# Altium schematic symbol library AltiumLibraries.SchLib: 486 symbols (part 1 of 3)
Pins are listed as number, name and electrical type; pins without a type are passive.

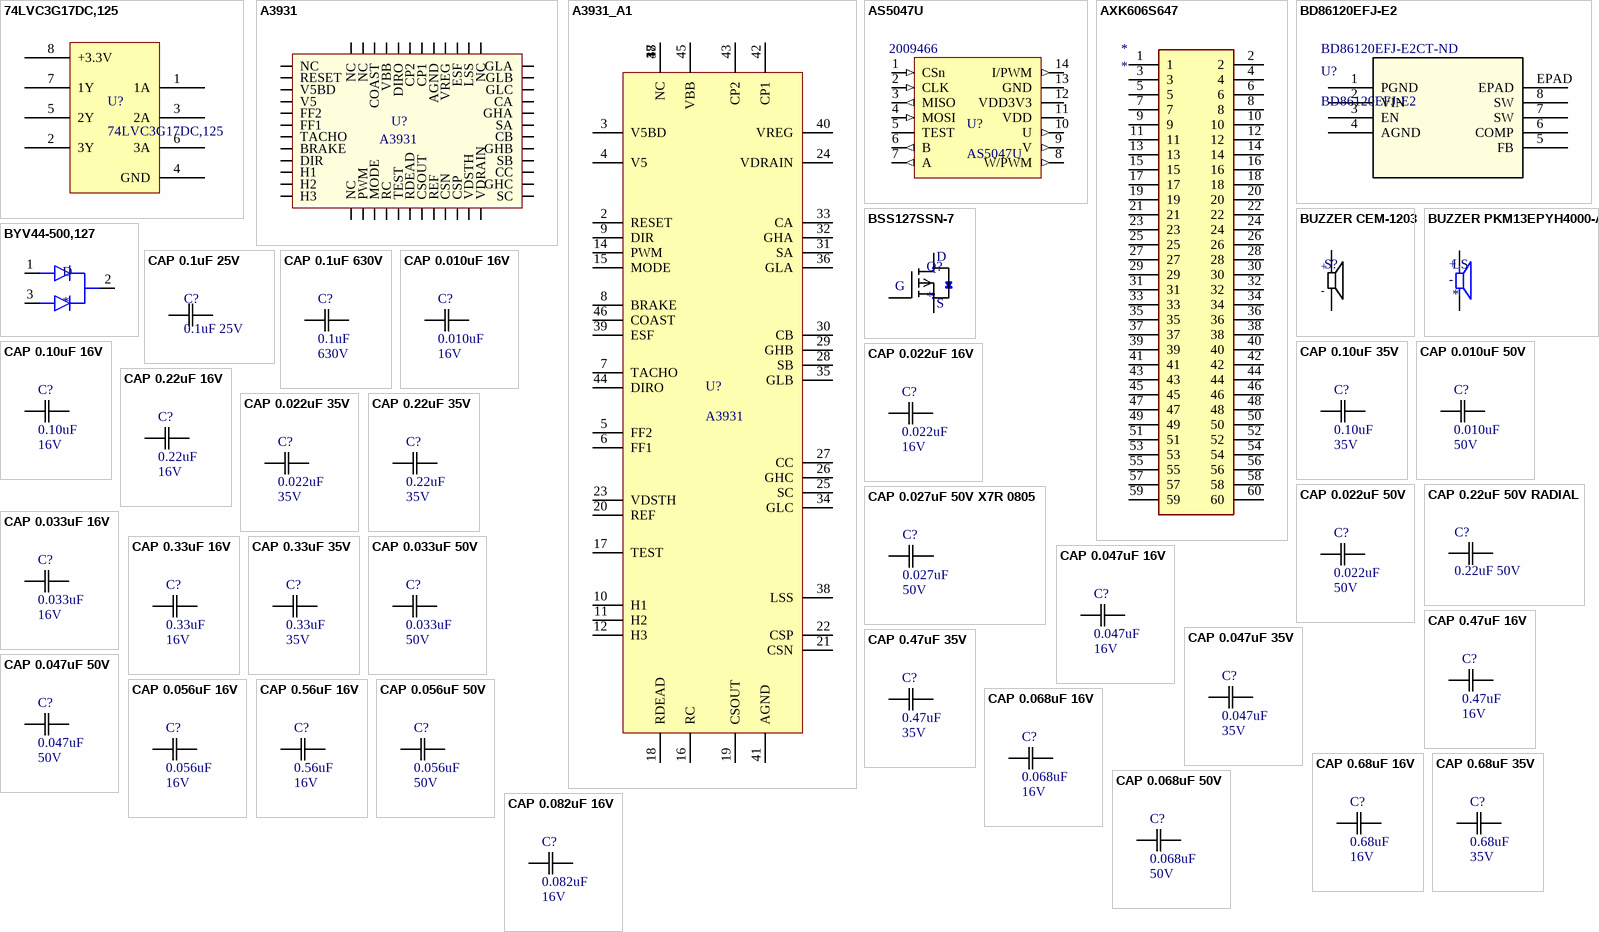
[diagram p0: symbols 74LVC3G17DC,125 to CAP 0.082uF 16V]

## 74LVC3G17DC,125
designator U?
IC BUFFER TRIPLE SCHMITT TRIGGER 5.5V VSSOP-8; Manufacturer: Nexperia; Supplier 1: Newark; Manufacturer Part Number: 74LVC3G17DC,125; Supplier Part Number 1: 33AC1281
pins: 1 1A, 2 3Y, 3 2A, 4 GND (power), 5 2Y, 6 3A, 7 1Y, 8 +3.3V

## A3931
designator U?
IC MOTOR DRIVER 5.5V-50V 48LQFP; Rating: 5.5V ~ 50V; Digikey Link: https://www.digikey.com/product-detail/en/allegro-microsystems-llc/A3931KJPTR-T/620-1290-1-ND/2000021; Supplier 1: Digi-Key; Supplier Part Number 1: 620-1290-1-ND
pins: 1 NC, 2 RESET, 3 V5BD, 4 V5, 5 FF2, 6 FF1, 7 TACHO, 8 BRAKE, 9 DIR, 10 H1, 11 H2, 12 H3, 13 NC, 14 PWM, 15 MODE, 16 RC, 17 TEST, 18 RDEAD, 19 CSOUT, 20 REF, 21 CSN, 22 CSP, 23 VDSTH, 24 VDRAIN, 25 SC, 26 GHC, 27 CC, 28 SB, 29 GHB, 30 CB, 31 SA, 32 GHA, 33 CA, 34 GLC, 35 GLB, 36 GLA, 37 NC, 38 LSS, 39 ESF, 40 VREG, 41 AGND, 42 CP1, 43 CP2, 44 DIRO, 45 VBB, 46 COAST, 47 NC, 48 NC

## A3931_A1
designator U?, comment A3931
IC MOTOR DRIVER 5.5V-50V 48LQFP - Alternative Symbol; Digikey Link: https://www.digikey.ca/product-detail/en/allegro-microsystems/A3931KJPTR-T/620-1290-1-ND/2000021; Supplier 1: Digi-Key; Supplier Part Number 1: 620-1290-1-ND
pins: 1 NC, 2 RESET, 3 V5BD, 4 V5, 5 FF2, 6 FF1, 7 TACHO, 8 BRAKE, 9 DIR, 10 H1, 11 H2, 12 H3, 13, 14 PWM, 15 MODE, 16 RC, 17 TEST, 18 RDEAD, 19 CSOUT, 20 REF, 21 CSN, 22 CSP, 23 VDSTH, 24 VDRAIN, 25 SC, 26 GHC, 27 CC, 28 SB, 29 GHB, 30 CB, 31 SA, 32 GHA, 33 CA, 34 GLC, 35 GLB, 36 GLA, 37 NC, 38 LSS, 39 ESF, 40 VREG, 41 AGND, 42 CP1, 43 CP2, 44 DIRO, 45 VBB, 46 COAST, 47 NC, 48 NC

## AS5047U
designator U?  Supplier Part Number 1: 2009466
14-Bit On-Axis Magnetic Rotary Position Sensor with Up to 14-Bit Binary Incremental Pulse Count; Supplier 1: RSComponents
pins: 1 CSn (in), 2 CLK (in), 3 MISO (out), 4 MOSI (in), 5 TEST, 6 B (out), 7 A (out), 8 W/PWM (out), 9 V (out), 10 U (out), 11 VDD, 12 VDD3V3, 13 GND, 14 I/PWM (out)

## AXK606S647
designator *
RS14100_WIFI_CONN
pins: 1, 2, 3, 4, 5, 6, 7, 8, 9, 10, 11, 12, 13, 14, 15, 16, 17, 18, 19, 20, 21, 22, 23, 24, 25, 26, 27, 28, 29, 30, 31, 32, 33, 34, 35, 36, 37, 38, 39, 40, 41, 42, 43, 44, 45, 46, 47, 48, 49, 50, 51, 52, 53, 54, 55, 56, 57, 58, 59, 60

## BD86120EFJ-E2
designator U?  Supplier Part Number 1: BD86120EFJ-E2CT-ND
IC REG BUCK ADJ 5A 8HTSOP-J; Type: DEV; Supplier 1: Digi-Key
pins: 1 PGND, 2 VIN, 3 EN, 4 AGND, 5 FB, 6 COMP, 7 SW, 8 SW, EPAD

## BSS127SSN-7
designator Q?
Small Signal N-Ch, 600Vds
pins: D, G, S

## BUZZER CEM-1203
designator S?  (value not drawn)
AUDIO MAGNETIC XDCR 3-5V TH; Supplier 1: Digi-Key; Supplier Part Number 1: 102-1153-ND
pins: N, P
text: +; -

## BUZZER PKM13EPYH4000-A0
designator LS
Buzzers Transducer, Externally Driven Piezo 1.5V 4kHz 70dB @ 1.5V, 10cm Through Hole PC Pins; Value: *
pins: N, P
text: +; -

## BYV44-500,127
designator D
DIODE ARRAY GP 500V 30A TO220AB; Supplier 1: Digi-Key; Supplier Part Number 1: BYV44-500,127-ND
pins: 1 ANODE1, 2 COMMON_CATHODE, 3 ANODE2

## CAP 0.1uF 25V
designator C?, comment 0.1uF 25V
CAP CER 0.1UF 25V X7R 0805; Tolerance: 10%; Value: 0.1uF; Temperature Coefficient: X7R; Rating: 25V
pins: 1 C1, 2 C2

## CAP 0.1uF 630V
designator C?, comment Rating: 630V  (hidden comment: 0.1uF)
CAP CER 0.1uF 630V X7R 1210; Tolerance: 10%; Temperature Coefficient: X7R; Value: 0.1uF
pins: 1 C1, 2 C2

## CAP 0.010uF 16V
designator C?, comment Rating: 16V  (hidden comment: 0.010uF)
CAP CER 0.010UF 16V X5R 0603/0805; Tolerance: 10%; Temperature Coefficient: X5R; Value: 0.010uF
pins: 1 C1, 2 C2

## CAP 0.10uF 16V
designator C?, comment Rating: 16V  (hidden comment: 0.10uF)
CAP CER 0.10UF 16V X5R 0603/0805; Tolerance: 10%; Temperature Coefficient: X5R; Value: 0.10uF
pins: 1 C1, 2 C2

## CAP 0.10uF 35V
designator C?, comment Rating: 35V  (hidden comment: 0.10uF)
CAP CER 0.10UF 35V X7R 0603/0805; Tolerance: 10%; Temperature Coefficient: X7R; Value: 0.10uF
pins: 1 C1, 2 C2

## CAP 0.010uF 50V
designator C?, comment Rating: 50V  (hidden comment: 0.010uF)
CAP CER 0.010UF 50V X7R 0603/0805; Tolerance: 10%; Temperature Coefficient: X7R; Value: 0.010uF
pins: 1 C1, 2 C2

## CAP 0.022uF 16V
designator C?, comment Rating: 16V  (hidden comment: 0.022uF)
CAP CER 0.022UF 16V X5R 0603/0805; Tolerance: 10%; Temperature Coefficient: X5R; Value: 0.022uF
pins: 1 C1, 2 C2

## CAP 0.22uF 16V
designator C?, comment Rating: 16V  (hidden comment: 0.22uF)
CAP CER 0.22UF 16V X5R 0603/0805; Tolerance: 10%; Temperature Coefficient: X5R; Value: 0.22uF
pins: 1 C1, 2 C2

## CAP 0.022uF 35V
designator C?, comment Rating: 35V  (hidden comment: 0.022uF)
CAP CER 0.022UF 35V X7R 0603/0805; Tolerance: 10%; Temperature Coefficient: X7R; Value: 0.022uF
pins: 1 C1, 2 C2

## CAP 0.22uF 35V
designator C?, comment Rating: 35V  (hidden comment: 0.22uF)
CAP CER 0.22UF 35V X7R 0603/0805; Tolerance: 10%; Temperature Coefficient: X7R; Value: 0.22uF
pins: 1 C1, 2 C2

## CAP 0.022uF 50V
designator C?, comment Rating: 50V  (hidden comment: 0.022uF)
CAP CER 0.022UF 50V X7R 0603/0805; Tolerance: 10%; Temperature Coefficient: X7R; Value: 0.022uF
pins: 1 C1, 2 C2

## CAP 0.22uF 50V RADIAL
designator C?, comment 0.22uF 50V
CAP CER 0.22UF 50V X7R RADIAL; Tolerance: 10%; Value: 0.22 uF; Rating: 50V; Temperature coefficient: X7R
pins: 1 C1, 2 C2

## CAP 0.027uF 50V X7R 0805
designator C?, comment 0.027uF  Rating: 50V
CAP CER 0.027UF 50V X7R 0805; Tolerance: 5%; Temperature Coefficient: X7R; Value: 0.027uF
pins: 1, 2

## CAP 0.033uF 16V
designator C?, comment Rating: 16V  (hidden comment: 0.033uF)
CAP CER 0.033UF 16V X5R 0603/0805; Tolerance: 10%; Temperature Coefficient: X5R; Value: 0.033uF
pins: 1 C1, 2 C2

## CAP 0.33uF 16V
designator C?, comment Rating: 16V  (hidden comment: 0.33uF)
CAP CER 0.33UF 16V X5R 0603/0805; Tolerance: 10%; Temperature Coefficient: X5R; Value: 0.33uF
pins: 1 C1, 2 C2

## CAP 0.33uF 35V
designator C?, comment Rating: 35V  (hidden comment: 0.33uF)
CAP CER 0.33UF 35V X7R 0603/0805; Tolerance: 10%; Temperature Coefficient: X7R; Value: 0.33uF
pins: 1 C1, 2 C2

## CAP 0.033uF 50V
designator C?, comment Rating: 50V  (hidden comment: 0.033uF)
CAP CER 0.033UF 50V X7R 0603/0805; Tolerance: 10%; Temperature Coefficient: X7R; Value: 0.033uF
pins: 1 C1, 2 C2

## CAP 0.047uF 16V
designator C?, comment Rating: 16V  (hidden comment: 0.047uF)
CAP CER 0.047UF 16V X5R 0603/0805; Tolerance: 10%; Temperature Coefficient: X5R; Value: 0.047uF
pins: 1 C1, 2 C2

## CAP 0.47uF 16V
designator C?, comment Rating: 16V  (hidden comment: 0.47uF)
CAP CER 0.47UF 16V X5R 0603/0805; Tolerance: 10%; Temperature Coefficient: X5R; Value: 0.47uF
pins: 1 C1, 2 C2

## CAP 0.047uF 35V
designator C?, comment Rating: 35V  (hidden comment: 0.047uF)
CAP CER 0.047UF 35V X7R 0603/0805; Tolerance: 10%; Temperature Coefficient: X7R; Value: 0.047uF
pins: 1 C1, 2 C2

## CAP 0.47uF 35V
designator C?, comment Rating: 35V  (hidden comment: 0.47uF)
CAP CER 0.47UF 35V X7R 0603/0805; Tolerance: 10%; Temperature Coefficient: X7R; Value: 0.47uF
pins: 1 C1, 2 C2

## CAP 0.047uF 50V
designator C?, comment Rating: 50V  (hidden comment: 0.047uF)
CAP CER 0.047UF 50V X7R 0603/0805; Tolerance: 10%; Temperature Coefficient: X7R; Value: 0.047uF
pins: 1 C1, 2 C2

## CAP 0.056uF 16V
designator C?, comment Rating: 16V  (hidden comment: 0.056uF)
CAP CER 0.056UF 16V X5R 0603; Tolerance: 10%; Temperature Coefficient: X5R; Value: 0.056uF
pins: 1 C1, 2 C2

## CAP 0.56uF 16V
designator C?, comment Rating: 16V  (hidden comment: 0.56uF)
CAP CER 0.56UF 16V X5R 0805; Tolerance: 10%; Temperature Coefficient: X5R; Value: 0.56uF
pins: 1 C1, 2 C2

## CAP 0.056uF 50V
designator C?, comment Rating: 50V  (hidden comment: 0.056uF)
CAP CER 0.056UF 50V X7R 0603/0805; Tolerance: 10%; Temperature Coefficient: X7R; Value: 0.056uF
pins: 1 C1, 2 C2

## CAP 0.068uF 16V
designator C?, comment Rating: 16V  (hidden comment: 0.068uF)
CAP CER 0.068UF 16V X5R 0603/0805; Tolerance: 10%; Temperature Coefficient: X5R; Value: 0.068uF
pins: 1 C1, 2 C2

## CAP 0.68uF 16V
designator C?, comment Rating: 16V  (hidden comment: 0.68uF)
CAP CER 0.68UF 16V X5R 0603/0805; Tolerance: 10%; Temperature Coefficient: X5R; Value: 0.68uF
pins: 1 C1, 2 C2

## CAP 0.68uF 35V
designator C?, comment Rating: 35V  (hidden comment: 0.68uF)
CAP CER 0.68UF 35V X7R 0603/0805; Tolerance: 10%; Temperature Coefficient: X7R; Value: 0.68uF
pins: 1 C1, 2 C2

## CAP 0.068uF 50V
designator C?, comment Rating: 50V  (hidden comment: 0.068uF)
CAP CER 0.068UF 50V X7R 0603/0805; Tolerance: 10%; Temperature Coefficient: X7R; Value: 0.068uF
pins: 1 C1, 2 C2

## CAP 0.082uF 16V
designator C?, comment Rating: 16V  (hidden comment: 0.082uF)
CAP CER 0.082UF 16V X5R 0603; Tolerance: 10%; Temperature Coefficient: X5R; Value: 0.082uF
pins: 1 C1, 2 C2

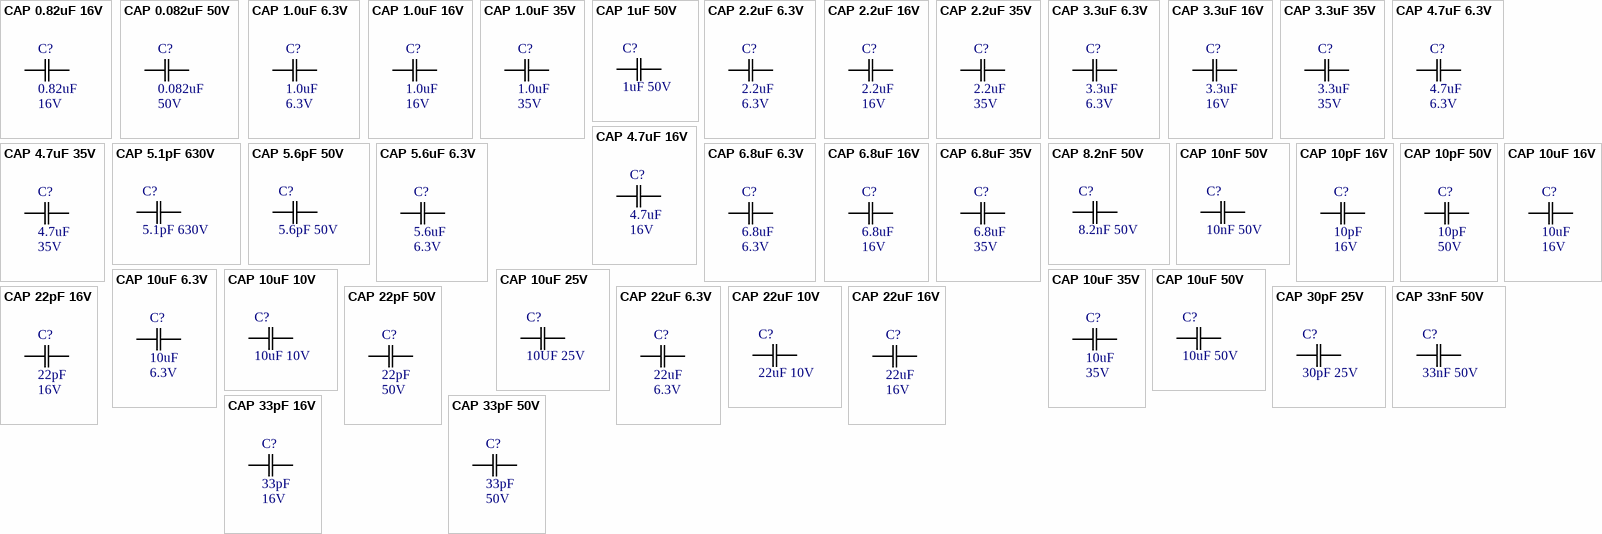
[diagram p1: symbols CAP 0.82uF 16V to CAP 33pF 50V]

## CAP 0.82uF 16V
designator C?, comment Rating: 16V  (hidden comment: 0.82uF)
CAP CER 0.82UF 16V X5R 0805; Tolerance: 10%; Temperature Coefficient: X5R; Value: 0.82uF
pins: 1 C1, 2 C2

## CAP 0.082uF 50V
designator C?, comment Rating: 50V  (hidden comment: 0.082uF)
CAP CER 0.082UF 50V X7R 0603/0805; Tolerance: 10%; Temperature Coefficient: X7R; Value: 0.082uF
pins: 1 C1, 2 C2

## CAP 1.0uF 6.3V
designator C?, comment Rating: 6.3V  (hidden comment: 1.0uF)
CAP CER 1.0UF 6.3V X5R 0603/0805; Tolerance: 10%; Temperature Coefficient: X5R; Value: 1.0uF
pins: 1 C1, 2 C2

## CAP 1.0uF 16V
designator C?, comment Rating: 16V  (hidden comment: 1.0uF)
CAP CER 1.0UF 16V X5R 0603/0805; Tolerance: 10%; Temperature Coefficient: X5R; Value: 1.0uF
pins: 1 C1, 2 C2

## CAP 1.0uF 35V
designator C?, comment Rating: 35V  (hidden comment: 1.0uF)
CAP CER 1.0UF 35V X7R 0603/0805; Tolerance: 10%; Temperature Coefficient: X7R; Value: 1.0uF
pins: 1 C1, 2 C2

## CAP 1uF 50V
designator C?, comment 1uF 50V
CAP CER 1UF 50V X7R 0805; Tolerance: 10%; Value: 1uF; Rating: 50V; Temperature Coefficient: X7R
pins: 1 C1, 2 C2

## CAP 2.2uF 6.3V
designator C?, comment Rating: 6.3V  (hidden comment: 2.2uF)
CAP CER 2.2UF 6.3V X5R 0603/0805; Tolerance: 10%; Temperature Coefficient: X5R; Value: 2.2uF
pins: 1 C1, 2 C2

## CAP 2.2uF 16V
designator C?, comment Rating: 16V  (hidden comment: 2.2uF)
CAP CER 2.2UF 16V X5R 0603/0805; Tolerance: 10%; Temperature Coefficient: X5R; Value: 2.2uF
pins: 1 C1, 2 C2

## CAP 2.2uF 35V
designator C?, comment Rating: 35V  (hidden comment: 2.2uF)
CAP CER 2.2UF 35V X7R 0603/0805; Tolerance: 10%; Temperature Coefficient: X7R; Value: 2.2uF
pins: 1 C1, 2 C2

## CAP 3.3uF 6.3V
designator C?, comment Rating: 6.3V  (hidden comment: 3.3uF)
CAP CER 3.3UF 6.3V X5R 0603/0805; Tolerance: 10%; Temperature Coefficient: X5R; Value: 3.3uF
pins: 1 C1, 2 C2

## CAP 3.3uF 16V
designator C?, comment Rating: 16V  (hidden comment: 3.3uF)
CAP CER 3.3UF 16V X5R 0603/0805; Tolerance: 10%; Temperature Coefficient: X5R; Value: 3.3uF
pins: 1 C1, 2 C2

## CAP 3.3uF 35V
designator C?, comment Rating: 35V  (hidden comment: 3.3uF)
CAP CER 3.3UF 35V X7R 0603/0805; Tolerance: 10%; Temperature Coefficient: X7R; Value: 3.3uF
pins: 1 C1, 2 C2

## CAP 4.7uF 6.3V
designator C?, comment Rating: 6.3V  (hidden comment: 4.7uF)
CAP CER 4.7UF 6.3V X5R 0603/0805; Tolerance: 10%; Temperature Coefficient: X5R; Value: 4.7uF
pins: 1 C1, 2 C2

## CAP 4.7uF 16V
designator C?, comment Rating: 16V  (hidden comment: 4.7uF)
CAP CER 4.7UF 16V X5R 0603/0805; Tolerance: 10%; Temperature Coefficient: X5R; Value: 4.7uF
pins: 1 C1, 2 C2

## CAP 4.7uF 35V
designator C?, comment Rating: 35V  (hidden comment: 4.7uF)
CAP CER 4.7UF 35V X7R 0603/0805; Tolerance: 10%; Temperature Coefficient: X7R; Value: 4.7uF
pins: 1 C1, 2 C2

## CAP 5.1pF 630V
designator C?, comment 5.1pF 630V
CAP CER 5.1PF 630V C0G/NP0 0805; Tolerance: 10%; Rating: 50V; Value: 5.1pF; Temperature Coefficient: C0G/NP0
pins: 1 C1, 2 C2

## CAP 5.6pF 50V
designator C?, comment 5.6pF 50V
CAP CER 5.6PF 50V C0G/NP0 0805; Tolerance: 5%; Value: 5.6pF; Rating: 50V; Temperature Coefficient: C0G/NP0
pins: 1 C1, 2 C2

## CAP 5.6uF 6.3V
designator C?, comment Rating: 6.3V  (hidden comment: 5.6uF)
CAP CER 5.6UF 6.3V X5R 0805; Tolerance: 10%; Temperature Coefficient: X5R; Value: 5.6uF
pins: 1 C1, 2 C2

## CAP 6.8uF 6.3V
designator C?, comment Rating: 6.3V  (hidden comment: 6.8uF)
CAP CER 6.8UF 6.3V X5R 0603/0805; Tolerance: 10%; Temperature Coefficient: X5R; Value: 6.8uF
pins: 1 C1, 2 C2

## CAP 6.8uF 16V
designator C?, comment Rating: 16V  (hidden comment: 6.8uF)
CAP CER 6.8UF 16V X5R 0603/0805; Tolerance: 10%; Temperature Coefficient: X5R; Value: 6.8uF
pins: 1 C1, 2 C2

## CAP 6.8uF 35V
designator C?, comment Rating: 35V  (hidden comment: 6.8uF)
CAP CER 6.8UF 35V X7R 0805; Tolerance: 10%; Temperature Coefficient: X7R; Value: 6.8uF
pins: 1 C1, 2 C2

## CAP 8.2nF 50V
designator C?, comment 8.2nF 50V
CAP CER 8200PF 50V X7R 0805; Tolerance: 10%; Value: 8.2nF; Rating: 50V; Temperature Coefficient: X7R
pins: 1 C1, 2 C2

## CAP 10nF 50V
designator C?, comment 10nF 50V
CAP CER 10000PF 50V X7R 0805; Tolerance: 10%; Value: 10nF; Rating: 50V; Temperature Coefficient: X7R
pins: 1 C1, 2 C2

## CAP 10pF 16V
designator C?, comment Rating: 16V  (hidden comment: 10pF)
CAP CER 10PF 16V X5R 0603; Tolerance: 10%; Temperature Coefficient: X5R; Value: 10pF
pins: 1 C1, 2 C2

## CAP 10pF 50V
designator C?, comment Rating: 50V  (hidden comment: 10pF)
CAP CER 10PF 50V X7R 0603/0805; Tolerance: 10%; Temperature Coefficient: X7R; Value: 10pF
pins: 1 C1, 2 C2

## CAP 10uF 6.3V
designator C?, comment Rating: 6.3V  (hidden comment: 10uF)
CAP CER 10UF 6.3V X5R 0603/0805; Tolerance: 10%; Temperature Coefficient: X5R; Value: 10uF
pins: 1 C1, 2 C2

## CAP 10uF 10V
designator C?, comment 10uF 10V
CAP CER 10UF 10V X5R 0805; Tolerance: 10%; Value: 10uF; Rating: 10V
pins: 1 C1, 2 C2

## CAP 10uF 16V
designator C?, comment Rating: 16V  (hidden comment: 10uF)
CAP CER 10UF 16V X5R 0603/0805; Tolerance: 10%; Temperature Coefficient: X5R; Value: 10uF
pins: 1 C1, 2 C2

## CAP 10uF 25V
designator C?, comment 10UF 25V
CAP CER 10UF 25V X5R 1206; Tolerance: 10%; Value: 10uF; Rating: 25V; Temperature Coefficient: X5R
pins: 1 C1, 2 C2

## CAP 10uF 35V
designator C?, comment Rating: 35V  (hidden comment: 10uF)
CAP CER 10UF 35V X7R 0805; Tolerance: 10%; Temperature Coefficient: X7R; Value: 10uF
pins: 1 C1, 2 C2

## CAP 10uF 50V
designator C?, comment 10uF 50V
CAP CER 10UF 50V X7R; Tolerance: 10%; Value: 10uF; Rating: 50V
pins: 1 C1, 2 C2

## CAP 22pF 16V
designator C?, comment Rating: 16V  (hidden comment: 22pF)
CAP CER 22PF 16V X5R 0603; Tolerance: 10%; Temperature Coefficient: X5R; Value: 22pF
pins: 1 C1, 2 C2

## CAP 22pF 50V
designator C?, comment Rating: 50V  (hidden comment: 22pF)
CAP CER 22PF 50V X7R 0603/0805; Tolerance: 10%; Temperature Coefficient: X7R; Value: 22pF
pins: 1 C1, 2 C2

## CAP 22uF 6.3V
designator C?, comment Rating: 6.3V  (hidden comment: 22uF)
CAP CER 22UF 6.3V X5R 0603/0805; Tolerance: 10%; Temperature Coefficient: X5R; Value: 22uF
pins: 1 C1, 2 C2

## CAP 22uF 10V
designator C?, comment 22uF 10V
CAP CER 2.2UF 10V X5R 0805; Tolerance: 20%; Value: 22uF; Rating: 10V; Temperature Coefficient: X5R
pins: 1 C1, 2 C2

## CAP 22uF 16V
designator C?, comment Rating: 16V  (hidden comment: 22uF)
CAP CER 22UF 16V X5R 0805; Tolerance: 10%; Temperature Coefficient: X5R; Value: 22uF
pins: 1 C1, 2 C2

## CAP 30pF 25V
designator C?, comment 30pF 25V
CAP CER 30PF 25V NP0 0805; Tolerance: 20%; Value: 30pF; Rating: 25V
pins: 1 C1, 2 C2

## CAP 33nF 50V
designator C?, comment 33nF 50V
CAP CER 0.033UF 50V X7R 0805; Tolerance: 5%; Value: 33nF; Rating: 50V
pins: 1 C1, 2 C2

## CAP 33pF 16V
designator C?, comment Rating: 16V  (hidden comment: 33pF)
CAP CER 33PF 16V X5R 0603; Tolerance: 10%; Temperature Coefficient: X5R; Value: 33pF
pins: 1 C1, 2 C2

## CAP 33pF 50V
designator C?, comment Rating: 50V  (hidden comment: 33pF)
CAP CER 33PF 50V X7R 0603/0805; Tolerance: 10%; Temperature Coefficient: X7R; Value: 33pF
pins: 1 C1, 2 C2

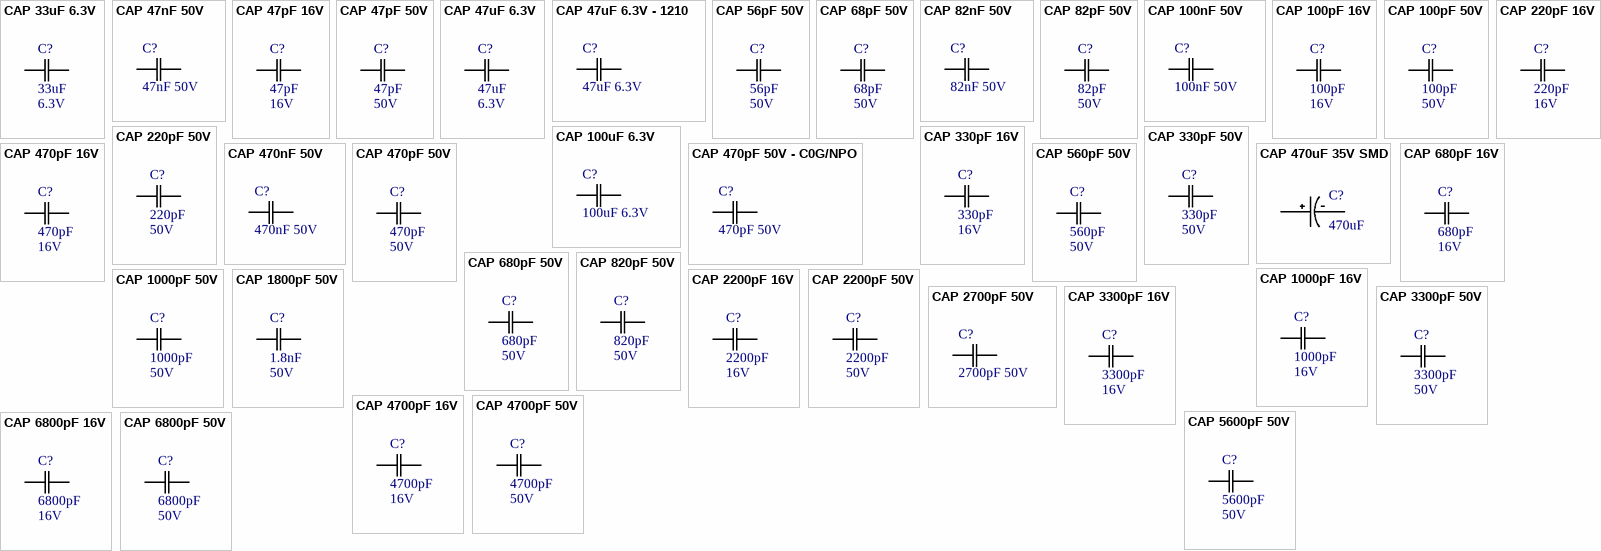
[diagram p2: symbols CAP 33uF 6.3V to CAP 6800pF 50V]

## CAP 33uF 6.3V
designator C?, comment Rating: 6.3V  (hidden comment: 33uF)
CAP CER 33UF 6.3V X5R 0805; Tolerance: 10%; Temperature Coefficient: X5R; Value: 33uF
pins: 1 C1, 2 C2

## CAP 47nF 50V
designator C?, comment 47nF 50V
CAP CER 0.047UF 50V X7R 0805; Tolerance: 5%; Value: 47nF; Rating: 50V
pins: 1 C1, 2 C2

## CAP 47pF 16V
designator C?, comment Rating: 16V  (hidden comment: 47pF)
CAP CER 47PF 16V X5R 0603/0805; Tolerance: 10%; Temperature Coefficient: X5R; Value: 47pF
pins: 1 C1, 2 C2

## CAP 47pF 50V
designator C?, comment Rating: 50V  (hidden comment: 47pF)
CAP CER 47PF 50V X7R 0603/0805; Tolerance: 10%; Temperature Coefficient: X7R; Value: 47pF
pins: 1 C1, 2 C2

## CAP 47uF 6.3V
designator C?, comment Rating: 6.3V  (hidden comment: 47uF)
CAP CER 47UF 6.3V X5R 0603/0805; Tolerance: 20%; Temperature Coefficient: X5R; Value: 47uF
pins: 1 C1, 2 C2

## CAP 47uF 6.3V - 1210
designator C?, comment 47uF 6.3V
CAP CER 47UF 6.3V X7R 1210; Tolerance: 10%; Value: 47uF; Rating: 6.3V
pins: 1 C1, 2 C2

## CAP 56pF 50V
designator C?, comment Rating: 50V  (hidden comment: 56pF)
CAP CER 56PF 50V X7R 0603/0805; Tolerance: 10%; Temperature Coefficient: X7R; Value: 56pF
pins: 1 C1, 2 C2

## CAP 68pF 50V
designator C?, comment Rating: 50V  (hidden comment: 68pF)
CAP CER 68PF 50V X7R 0603/0805; Tolerance: 10%; Temperature Coefficient: X7R; Value: 68pF
pins: 1 C1, 2 C2

## CAP 82nF 50V
designator C?, comment 82nF 50V
CAP CER 0.082UF 50V X7R 0805; Tolerance: 5%; Value: 82nF; Rating: 50V
pins: 1 C1, 2 C2

## CAP 82pF 50V
designator C?, comment Rating: 50V  (hidden comment: 82pF)
CAP CER 82PF 50V X7R 0603/0805; Tolerance: 10%; Temperature Coefficient: X7R; Value: 82pF
pins: 1 C1, 2 C2

## CAP 100nF 50V
designator C?, comment 100nF 50V
CAP CER 0.1UF 50V X7R 0805; Tolerance: 10%; Value: 100nF; Rating: 50V
pins: 1 C1, 2 C2

## CAP 100pF 16V
designator C?, comment Rating: 16V  (hidden comment: 100pF)
CAP CER 100PF 16V X5R 0603/0805; Tolerance: 10%; Temperature Coefficient: X5R; Value: 100pF
pins: 1 C1, 2 C2

## CAP 100pF 50V
designator C?, comment Rating: 50V  (hidden comment: 100pF)
CAP CER 100PF 50V X7R 0603/0805; Tolerance: 10%; Temperature Coefficient: X7R; Value: 100pF
pins: 1 C1, 2 C2

## CAP 100uF 6.3V
designator C?, comment 100uF 6.3V
CAP CER 100UF 6.3V X5R 1206; Tolerance: 20%; Value: 100uF; Rating: 6.3V
pins: 1 C1, 2 C2

## CAP 220pF 16V
designator C?, comment Rating: 16V  (hidden comment: 220pF)
CAP CER 220PF 16V X5R 0603/0805; Tolerance: 10%; Temperature Coefficient: X5R; Value: 220pF
pins: 1 C1, 2 C2

## CAP 220pF 50V
designator C?, comment Rating: 50V  (hidden comment: 220pF)
CAP CER 220PF 50V X7R 0603/0805; Tolerance: 10%; Temperature Coefficient: X7R; Value: 220pF
pins: 1 C1, 2 C2

## CAP 330pF 16V
designator C?, comment Rating: 16V  (hidden comment: 330pF)
CAP CER 330PF 16V X5R 0603/0805; Tolerance: 10%; Temperature Coefficient: X5R; Value: 330pF
pins: 1 C1, 2 C2

## CAP 330pF 50V
designator C?, comment Rating: 50V  (hidden comment: 330pF)
CAP CER 330PF 50V X7R 0603/0805; Tolerance: 10%; Temperature Coefficient: X7R; Value: 330pF
pins: 1 C1, 2 C2

## CAP 470nF 50V
designator C?, comment 470nF 50V
CAP CER 0.1UF 50V X7R 0805; Tolerance: 10%; Value: 470nF; Rating: 50V
pins: 1 C1, 2 C2

## CAP 470pF 16V
designator C?, comment Rating: 16V  (hidden comment: 470pF)
CAP CER 470PF 16V X5R 0603/0805; Tolerance: 10%; Temperature Coefficient: X5R; Value: 470pF
pins: 1 C1, 2 C2

## CAP 470pF 50V
designator C?, comment Rating: 50V  (hidden comment: 470pF)
CAP CER 470PF 50V X7R 0603/0805; Tolerance: 10%; Temperature Coefficient: X7R; Value: 470pF
pins: 1 C1, 2 C2

## CAP 470pF 50V - C0G/NPO
designator C?, comment 470pF 50V
CAP CER 470PF 50V C0G/NPO 0805; Tolerance: 5%; Value: 470pF; Rating: 50V
pins: 1 C1, 2 C2

## CAP 470uF 35V SMD
designator C?, comment 470uF
470µF 35V Aluminum Electrolytic Capacitors Radial, Can - SMD 5000 Hrs @ 105°C
pins: NEG, POS

## CAP 560pF 50V
designator C?, comment Rating: 50V  (hidden comment: 560pF)
CAP CER 560PF 50V X7R 0603/0805; Tolerance: 10%; Temperature Coefficient: X7R; Value: 560pF
pins: 1 C1, 2 C2

## CAP 680pF 16V
designator C?, comment Rating: 16V  (hidden comment: 680pF)
CAP CER 680PF 16V X5R 0603/0805; Tolerance: 10%; Temperature Coefficient: X5R; Value: 680pF
pins: 1 C1, 2 C2

## CAP 680pF 50V
designator C?, comment Rating: 50V  (hidden comment: 680pF)
CAP CER 680PF 50V X7R 0603/0805; Tolerance: 10%; Temperature Coefficient: X7R; Value: 680pF
pins: 1 C1, 2 C2

## CAP 820pF 50V
designator C?, comment Rating: 50V  (hidden comment: 820pF)
CAP CER 820PF 50V X7R 0603/0805; Tolerance: 10%; Temperature Coefficient: X7R; Value: 820pF
pins: 1 C1, 2 C2

## CAP 1000pF 16V
designator C?, comment Rating: 16V  (hidden comment: 1000pF)
CAP CER 1000PF 16V X5R 0603/0805; Tolerance: 10%; Temperature Coefficient: X5R; Value: 1000pF
pins: 1 C1, 2 C2

## CAP 1000pF 50V
designator C?, comment Rating: 50V  (hidden comment: 1000pF)
CAP CER 1000PF 50V X7R 0603/0805; Tolerance: 10%; Temperature Coefficient: X7R; Value: 1000pF
pins: 1 C1, 2 C2

## CAP 1800pF 50V
designator C?, comment Rating: 50V  (hidden comment: 1.8nF)
CAP CER 1800pF 50V X7R 0603; Tolerance: 10%; Temperature Coefficient: X7R; Value: 1.8nF
pins: 1 C1, 2 C2

## CAP 2200pF 16V
designator C?, comment Rating: 16V  (hidden comment: 2200pF)
CAP CER 2200PF 16V X5R 0603/0805; Tolerance: 10%; Temperature Coefficient: X5R; Value: 2200pF
pins: 1 C1, 2 C2

## CAP 2200pF 50V
designator C?, comment Rating: 50V  (hidden comment: 2200pF)
CAP CER 2200PF 50V X7R 0603/0805; Tolerance: 10%; Temperature Coefficient: X7R; Value: 2200pF
pins: 1 C1, 2 C2

## CAP 2700pF 50V
designator C?, comment 2700pF 50V
CAP CER 2700PF 50V X7R 0805; Tolerance: 10%; Value: 2700pF; Rating: 50V; Temperature Coefficient: X7R
pins: 1 C1, 2 C2

## CAP 3300pF 16V
designator C?, comment Rating: 16V  (hidden comment: 3300pF)
CAP CER 3300PF 16V X5R 0603/0805; Tolerance: 10%; Temperature Coefficient: X5R; Value: 3300pF
pins: 1 C1, 2 C2

## CAP 3300pF 50V
designator C?, comment Rating: 50V  (hidden comment: 3300pF)
CAP CER 3300PF 50V X7R 0603/0805; Tolerance: 10%; Temperature Coefficient: X7R; Value: 3300pF
pins: 1 C1, 2 C2

## CAP 4700pF 16V
designator C?, comment Rating: 16V  (hidden comment: 4700pF)
CAP CER 4700PF 16V X5R 0603/0805; Tolerance: 10%; Temperature Coefficient: X5R; Value: 4700pF
pins: 1 C1, 2 C2

## CAP 4700pF 50V
designator C?, comment Rating: 50V  (hidden comment: 4700pF)
CAP CER 4700PF 50V X7R 0603/0805; Tolerance: 10%; Temperature Coefficient: X7R; Value: 4700pF
pins: 1 C1, 2 C2

## CAP 5600pF 50V
designator C?, comment Rating: 50V  (hidden comment: 5600pF)
CAP CER 5600PF 50V X7R 0603/0805; Tolerance: 10%; Temperature Coefficient: X7R; Value: 5600pF
pins: 1 C1, 2 C2

## CAP 6800pF 16V
designator C?, comment Rating: 16V  (hidden comment: 6800pF)
CAP CER 6800PF 16V X5R 0603/0805; Tolerance: 10%; Temperature Coefficient: X5R; Value: 6800pF
pins: 1 C1, 2 C2

## CAP 6800pF 50V
designator C?, comment Rating: 50V  (hidden comment: 6800pF)
CAP CER 6800PF 50V X7R 0603/0805; Tolerance: 10%; Temperature Coefficient: X7R; Value: 6800pF
pins: 1 C1, 2 C2

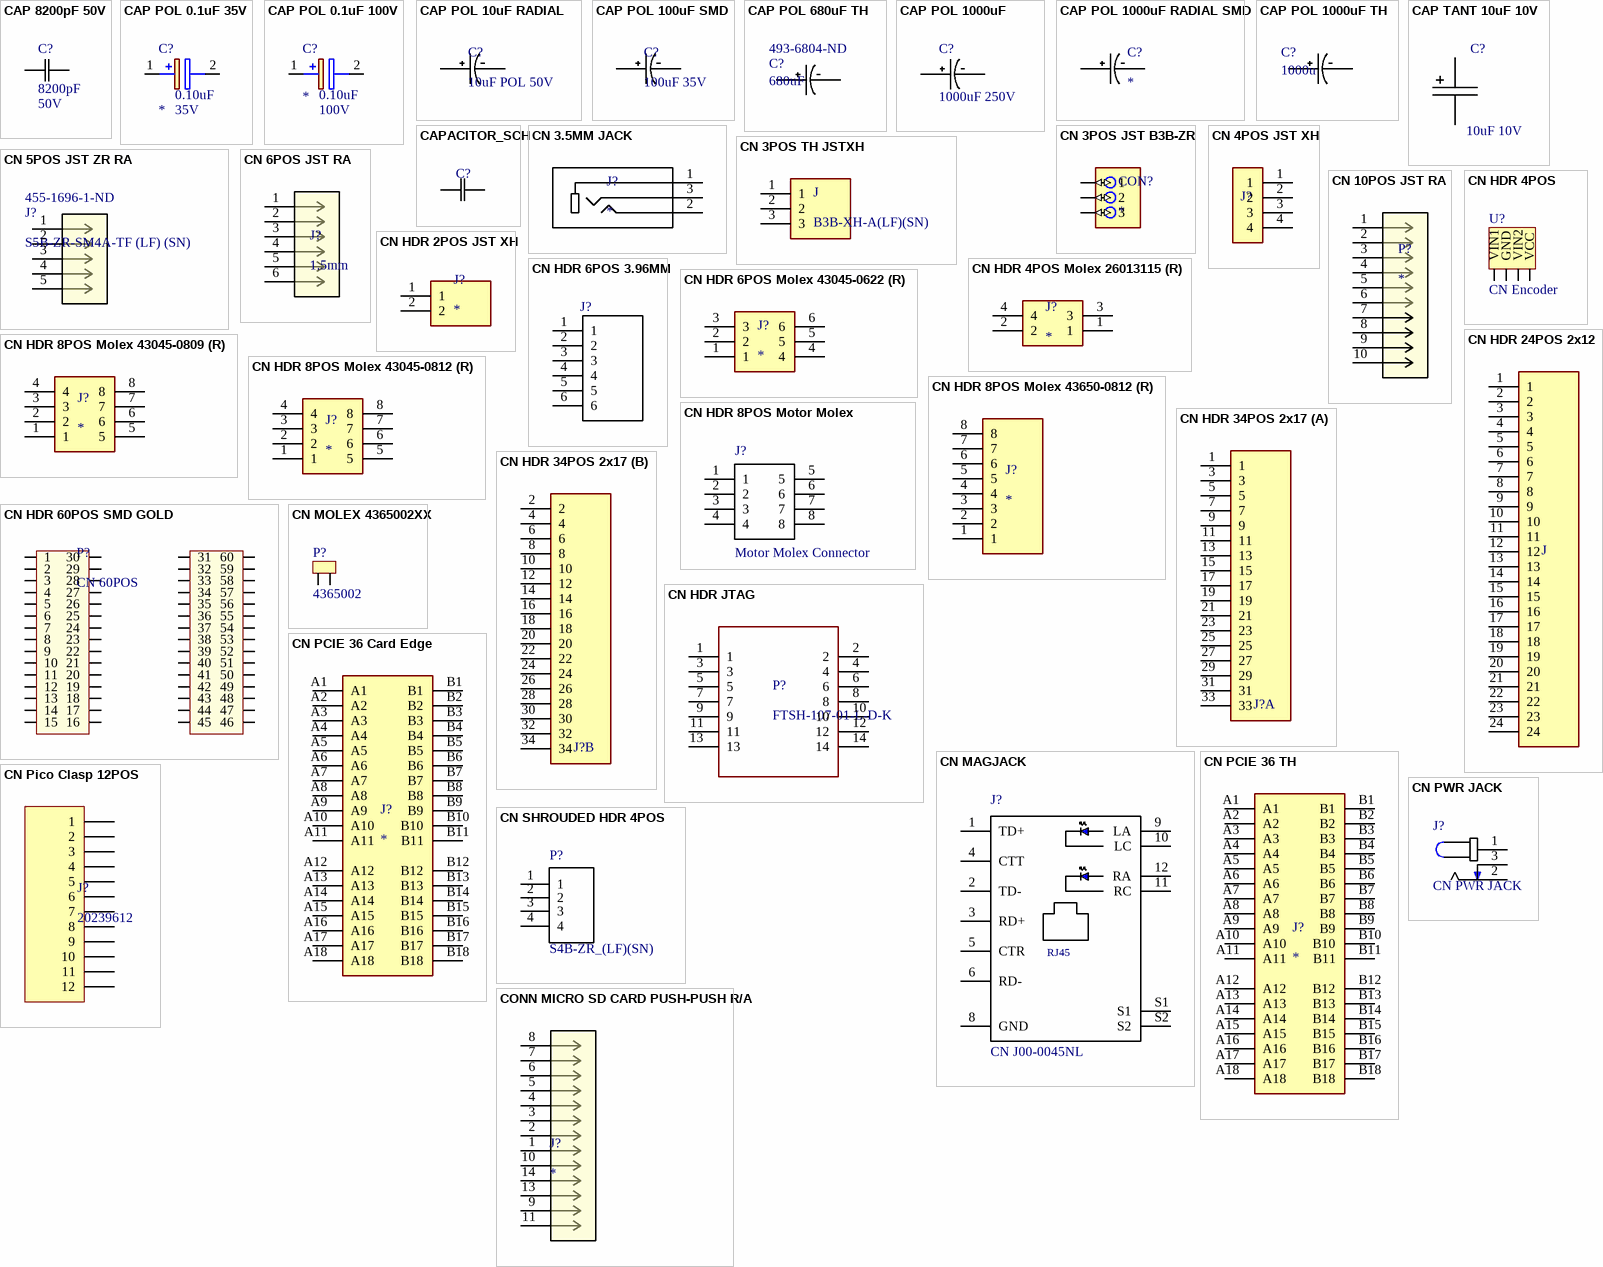
[diagram p3: symbols CAP 8200pF 50V to CONN MICRO SD CARD PUSH-PUSH R/A]

## CAP 8200pF 50V
designator C?, comment Rating: 50V  (hidden comment: 8200pF)
CAP CER 8200PF 50V X7R 0603/0805; Tolerance: 10%; Temperature Coefficient: X7R; Value: 8200pF
pins: 1 C1, 2 C2

## CAP POL 0.1uF 35V
designator C?  value 0.10uF  Rating: 35V
0.1µF 35V Aluminum Electrolytic Capacitors Radial, Can - SMD  7000 Hrs @ 105°C; Height: 7.3mm; Supplier 1: Digi-Key; Supplier Part Number 1: 493-9956-1-ND
pins: 1 +, 2 -

## CAP POL 0.1uF 100V
designator C?  value 0.10uF  Rating: 100V
0.1µF 100V Aluminum Electrolytic Capacitors, Through-Hole, Radial, Can 2000 Hrs @ 85°C; Height: 12.5mm; Supplier 1: Digi-Key; Supplier Part Number 1: 493-16876-ND
pins: 1 +, 2 -

## CAP POL 10uF RADIAL
designator C?, comment 10uF POL 50V
CAP ALUM 10UF 50V RADIAL; Tolerance: 20%; Temperature Coefficient: Unspecified; Value: 10uF; Rating: 50V
pins: NEG, POS

## CAP POL 100uF SMD
designator C?, comment 100uF 35V
CAP ALUM 100UF 35V SMD; Value: 10uF; Tolerance: 20%; Rating: 50V; Temperature Coefficient: Unspecified
pins: NEG, POS

## CAP POL 680uF TH
designator C?, comment 680uF  Supplier Part Number 1: 493-6804-ND
NICHICON   UHW1V681MPD6 ALUMINUM ELECTROLYTIC CAPACITOR, 680UF, 35V, 20%, RADIAL, FULL REEL; Manufacturer: Nichicon; Manufacturer Part Number: UHW1V681MPD6; Number of Pins: 2; Tolerance: 20%; Supplier 1: Digi-Key
pins: NEG, POS

## CAP POL 1000uF
designator C?, comment 1000uF 250V
United Chemi-Con / ESMQ251VSN102MQ45S; Tolerance: 20%; Supplier 1: Digi-Key; Manufacturer: United Chemi-Con; Manufacturer Part Number: ESMQ251VSN102MQ45S; Mount: Through Hole,PCB; Number of Pins: 2; Diameter: 25.4mm; Supplier Part Number 1: 565-2754-ND
pins: NEG, POS

## CAP POL 1000uF RADIAL SMD
designator C?
1000µF 25V Aluminum Electrolytic Capacitors Radial, Can - SMD 5000 Hrs @ 105Â°C; Value: *
pins: NEG, POS

## CAP POL 1000uF TH
designator C?, comment 1000u
NICHICON   UVR1E102MPD1TD   ALUMINUM ELECTROLYTIC CAPACITOR, 1000UF, 25V, 20%, RADIAL, FULL REEL; Supplier 1: Digi-Key; Manufacturer: Nichicon; Manufacturer Part Number: UVR1E102MPD1TD; Mount: Through Hole,PCB; Number of Pins: 2; Tolerance: 20%; Voltage Rating: 25V; Diameter: 10mm; Length: 20mm; Height: 20mm; Supplier Part Number 1: 493-5913-1-ND
pins: NEG, POS

## CAP TANT 10uF 10V
designator C?, comment 10uF 10V
CAP TANT 10UF 10V 1206; Tolerance: 10%; Type: Molded Tantalum; Value: 10uF; Rating: 10V
pins: 1 P$1, 2 P$2

## CAPACITOR_SCH
designator C?
pins: 1 C1, 2 C2

## CN 3.5MM JACK
designator J?
CN JACK STEREO 3.5MM R/A; Digikey Link: https://www.digikey.ca/product-detail/en/cui-devices/SJ1-3523N/CP1-3523N-ND/738689; Supplier 1: Digi-Key; Supplier Part Number 1: CP1-3523N-ND
pins: 1, 2, 3

## CN 3POS JST B3B-ZR
designator CON?
Connector Header Through Hole 3 position 0.059 (1.50mm); Value: *
pins: 1 (io), 2 (io), 3 (io)

## CN 3POS TH JSTXH
designator J, comment B3B-XH-A(LF)(SN)
CN 3POS TH JST XH; Value: *
pins: 1, 2, 3

## CN 4POS JST XH
designator J?
Connector Header Through Hole 4 position 0.098 _2.50mm_ / B4B-XH-A(LF)(SN); Value: *
pins: 1, 2, 3, 4

## CN 5POS JST ZR RA
designator J?, comment S5B-ZR-SM4A-TF (LF) (SN)  Supplier Part Number 1: 455-1696-1-ND
Connector Header Surface Mount, Right Angle 5 position 0.059" (1.50mm); Type: DEV; Supplier 1: Digi-Key
pins: 1, 2, 3, 4, 5

## CN 6POS JST RA
designator J?, comment 1.5mm
Conn Shrouded Header HDR 6 POS 1.5mm Solder RA Thru-Hole Box; Manufacturer: JST; Manufacturer Part Number: S6B-ZR(LF)(SN); Voltage Rating: 50V; Supplier 1: Digi-Key; Mount: Through Hole; Number of Pins: 6; Length: 10.5mm; Width: 3.5mm; Height: 7.2mm; Depth: 6mm; Supplier Part Number 1: 455-1673-ND
pins: 1, 2, 3, 4, 5, 6

## CN 10POS JST RA
designator P?
Connector Header Through Hole, Right Angle 10 position 0.059" (1.50mm) ZH Series
pins: 1, 2, 3, 4, 5, 6, 7, 8, 9, 10

## CN HDR 2POS JST XH
designator J?
Connector Header Through Hole 2 position 0.098 _2.50mm_ / JST XH; Value: *
pins: 1, 2

## CN HDR 4POS
designator U?, comment CN Encoder
CN HDR R/A 4POS 1.5MM; Rating: 1A; Digikey Link: https://www.digikey.ca/products/en?keywords=455-1671-ND; Value: N/A; Supplier 1: Digi-Key; Supplier Part Number 1: 455-1671-ND
pins: GND (power), VCC (power), VIN1 (in), VIN2 (in)

## CN HDR 4POS Molex 26013115 (R)
designator J?
Molex 26013115 4POS Minifit / dual row, right angle
pins: 1, 2, 3, 4

## CN HDR 6POS 3.96MM
designator J?, comment CONN HEADER VERT 6POS 3.96MM  (value not drawn)
Voltage Rating: 250VAC; Digikey Link: https://www.digikey.ca/product-detail/en/te-connectivity-amp-connectors/1877285-6/A99849-ND/2000097; Supplier 1: Digi-Key; Supplier Part Number 1: A99849-ND
pins: 1, 2, 3, 4, 5, 6

## CN HDR 6POS Molex 43045-0622 (R)
designator J?
Molex 43045-0622 6POS Microfit / dual row, right angle
pins: 1, 2, 3, 4, 5, 6

## CN HDR 8POS Molex 43045-0809 (R)
designator J?
Molex 43045-0809 8POS Microfit / dual row, right angle, surface mount
pins: 1, 2, 3, 4, 5, 6, 7, 8

## CN HDR 8POS Molex 43045-0812 (R)
designator J?
Molex 43045-0812 8POS Microfit / DR TH Vertical
pins: 1, 2, 3, 4, 5, 6, 7, 8

## CN HDR 8POS Molex 43650-0812 (R)
designator J?
Molex 43650-0812 8POS Microfit / single row, right angle, surface mount
pins: 1, 2, 3, 4, 5, 6, 7, 8

## CN HDR 8POS Motor Molex
designator J?, comment Motor Molex Connector
Connector Header Through Hole 8 position 0.165" (4.20mm); Value: N/A; Digikey Link: https://www.digikey.ca/products/en?keywords=WM3803-ND; Supplier 1: Digi-Key; Supplier Part Number 1: WM3803-ND
pins: 1, 2, 3, 4, 5, 6, 7, 8

## CN HDR 24POS 2x12
designator J  (value not drawn)
Pin Connector 2X12P MOD2 STIFTLEI 24 POS 0.1" 2.54mm
pins: 1, 2, 3, 4, 5, 6, 7, 8, 9, 10, 11, 12, 13, 14, 15, 16, 17, 18, 19, 20, 21, 22, 23, 24

## CN HDR 34POS 2x17
designator J?, comment 0.1" Header Female 34  (value not drawn)
Female Header THRU 34POS 2ROW 0.1" (2.54mm) pitch
part A pins: 1, 3, 5, 7, 9, 11, 13, 15, 17, 19, 21, 23, 25, 27, 29, 31, 33
part B pins: 2, 4, 6, 8, 10, 12, 14, 16, 18, 20, 22, 24, 26, 28, 30, 32, 34

## CN HDR 60POS SMD GOLD
designator P?, comment CN 60POS
60 Position Connector Header, Outer Shroud Contacts Surface Mount Gold; Digikey Link: https://www.digikey.ca/product-detail/en/panasonic-electric-works/AXK6S60647YG/255-2536-1-ND/1986699; Value: N/A; Tolerance: N/A; Rating: N/A; Supplier 1: Digi-Key; Supplier Part Number 1: 255-2536-1-ND
pins: 1, 2, 3, 4, 5, 6, 7, 8, 9, 10, 11, 12, 13, 14, 15, 16, 17, 18, 19, 20, 21, 22, 23, 24, 25, 26, 27, 28, 29, 30, 31, 32, 33, 34, 35, 36, 37, 38, 39, 40, 41, 42, 43, 44, 45, 46, 47, 48, 49, 50, 51, 52, 53, 54, 55, 56, 57, 58, 59, 60

## CN HDR JTAG
designator P?, comment FTSH-107-01-L-D-K
Connector Header Through Hole 14 position 0.050" (1.27mm); Rating: 3.4A; Digikey Link: https://www.digikey.ca/product-detail/en/samtec-inc/FTSH-107-01-L-D-K/612-FTSH-107-01-L-D-K-ND/6693516; Supplier 1: Mouser; Supplier Part Number 1: 200-FTSH10701LDK
pins: 1, 2, 3, 4, 5, 6, 7, 8, 9, 10, 11, 12, 13, 14

## CN MAGJACK
designator J?, comment CN J00-0045NL
CN MAGJACK 1PORT 100 BASE-TX; Digikey Link: https://www.digikey.com/product-detail/en/pulse-electronics-network/J00-0045NL/553-1619-5-ND/1036860?utm_source=snapeda&utm_medium=aggregator&utm_campaign=symbol; Value: *; Supplier 1: Mouser; Supplier Part Number 1: 673-J00-0045NL
pins: 1 TD+, 2 TD-, 3 RD+, 4 CTT, 5 CTR, 6 RD-, 8 GND, 9 LA, 10 LC, 11 RC, 12 RA, S1, S2
text: RJ45

## CN MOLEX 4365002XX
designator P?, comment 4365002
MOLEX MICROFIT 2CKT RIGHT THRU; Digikey Link: https://www.digikey.com/en/products/detail/molex/0436500205/3310532?s=N4IgTCBcDaICwGYBsBWADGsaUgLoF8g; Value: N/A; Supplier 1: Digi-Key
pins: 1, 2

## CN PCIE 36 Card Edge
designator J?
36 Position Male PCIE Connector
pins: A1, A2, A3, A4, A5, A6, A7, A8, A9, A10, A11, A12, A13, A14, A15, A16, A17, A18, B1, B2, B3, B4, B5, B6, B7, B8, B9, B10, B11, B12, B13, B14, B15, B16, B17, B18

## CN PCIE 36 TH
designator J?
36 Position Female Connector PCI Expressâ„¢ Gold 0.039 _1.00mm_ Black 10018784-10210TLF; Value: *
pins: A1, A2, A3, A4, A5, A6, A7, A8, A9, A10, A11, A12, A13, A14, A15, A16, A17, A18, B1, B2, B3, B4, B5, B6, B7, B8, B9, B10, B11, B12, B13, B14, B15, B16, B17, B18

## CN Pico Clasp 12POS
designator J?, comment 20239612
12 POS Right Angle Pico Clasp Surface Mount
pins: 1, 2, 3, 4, 5, 6, 7, 8, 9, 10, 11, 12

## CN PWR JACK
designator J?
1.3 x 4.2 mm, 2.0 A, Horizontal, Through Hole, Dc Power Jack Connector; Value: *; Supplier 1: Digi-Key; Supplier Part Number 1: CP-2519-ND
pins: 1, 2, 3

## CN SHROUDED HDR 4POS
designator P?, comment S4B-ZR_(LF)(SN)
Conn Shrouded Header HDR 4 POS 1.5mm Solder RA Thru-Hole Box; Supplier 1: Digi-Key; Supplier Part Number 1: 455-1671-ND
pins: 1, 2, 3, 4

## CONN MICRO SD CARD PUSH-PUSH R/A
designator J?
10 (8 + 2) Position Card Connector Secure Digital - microSD™ Surface Mount, Right Angle Gold
pins: 1, 2, 3, 4, 5, 6, 7, 8, 9, 10, 11, 13, 14

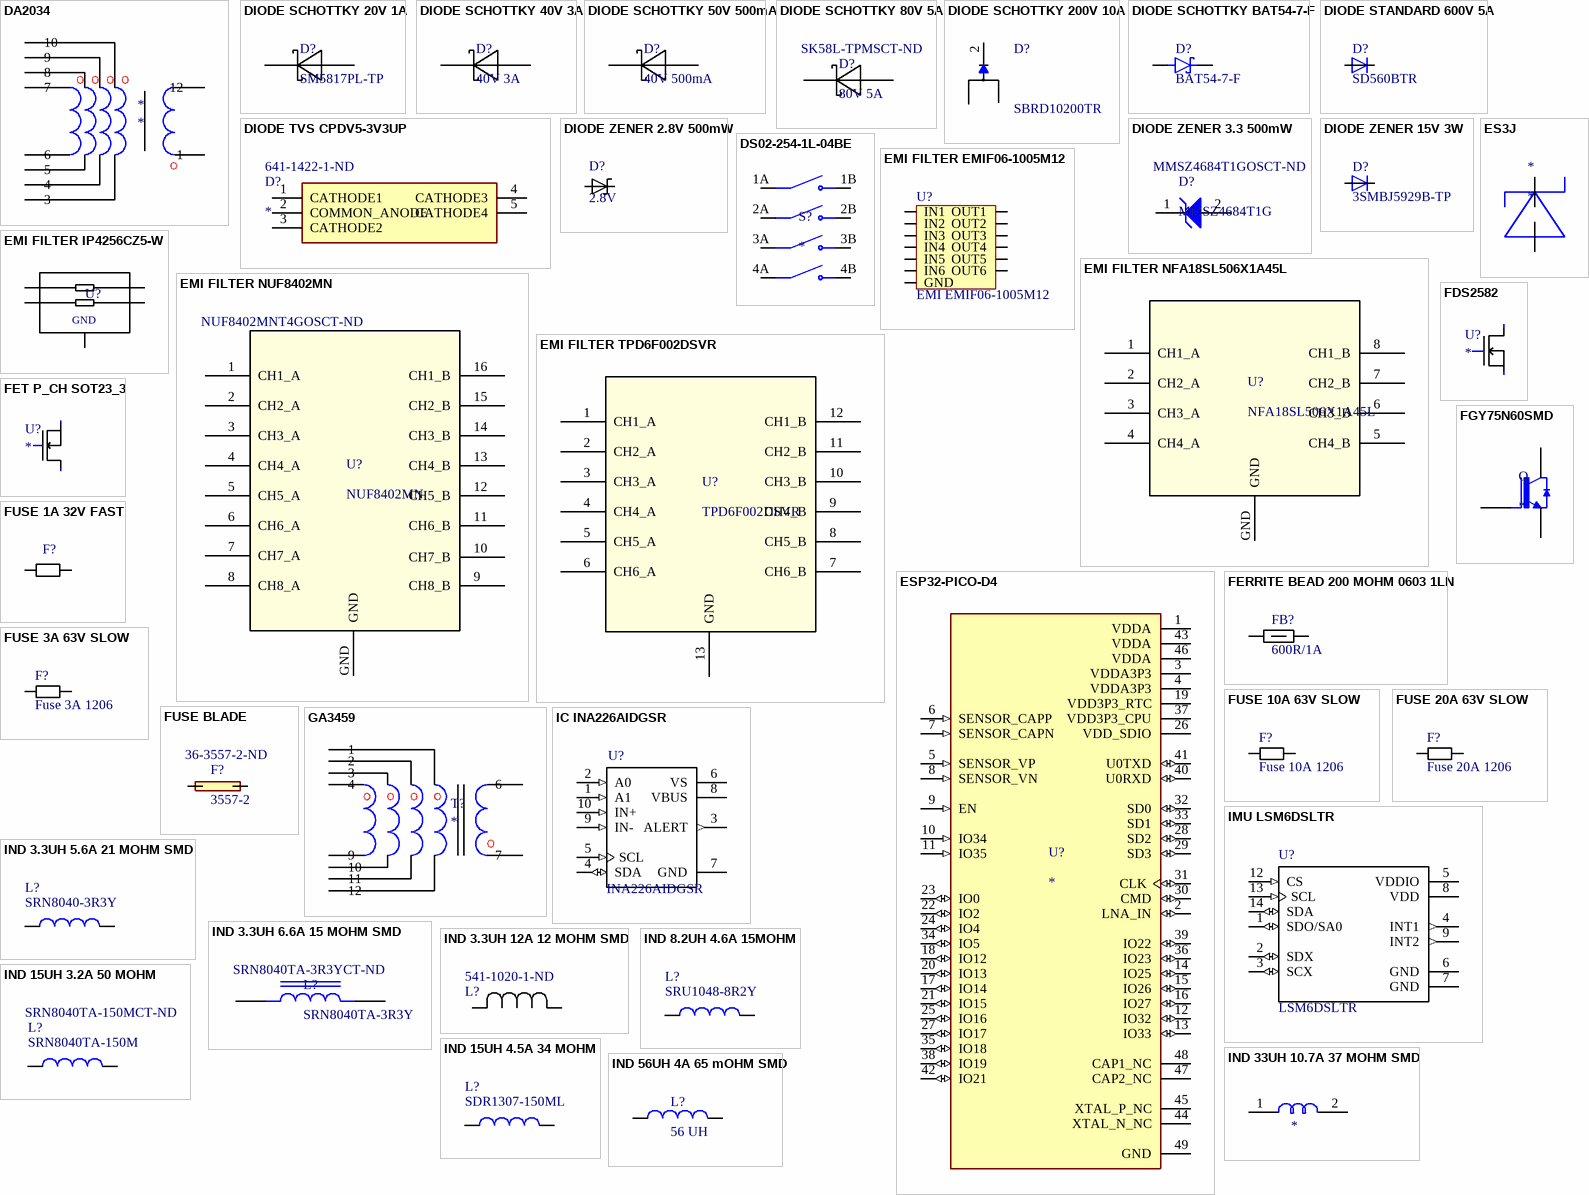
[diagram p4: symbols DA2034 to IND 56UH 4A 65 mOHM SMD]

## DA2034
designator *
Audio Transformers / Signal Transformers DA2032 Cap Chrgr For Linear LT3750/51; Supplier 1: Mouser; Supplier Part Number 1: 994-DA2034-ALB
pins: 1, 3, 4, 5, 6, 7, 8, 9, 10, 12

## DIODE SCHOTTKY 20V 1A
designator D?, comment SM5817PL-TP
Diode Schottky 20V 1A Surface Mount SOD-123FL; Digikey Link: https://www.digikey.ca/product-detail/en/micro-commercial-co/SM5817PL-TP/SM5817PL-TPMSCT-ND/1793410; Voltage Rating: 20V
pins: A, C K

## DIODE SCHOTTKY 40V 3A
designator D?, comment 40V 3A
Diode Schottky 40V 3A Surface Mount SMA
pins: A, C K

## DIODE SCHOTTKY 50V 500mA
designator D?, comment 40V 500mA
DIODE SCHOTTKY SMD 40V 500mA SOD123
pins: A, C

## DIODE SCHOTTKY 80V 5A
designator D?, comment 80V 5A  Supplier Part Number 1: SK58L-TPMSCT-ND
Diode Schottky 80V 5A Surface Mount SMA; Supplier 1: Digi-Key
pins: A, C K

## DIODE SCHOTTKY 200V 10A
designator D?, comment SBRD10200TR
Diode Schottky 200V 10A Surface Mount DPAK; Digikey Link: https://www.digikey.ca/product-detail/en/smc-diode-solutions/SBRD10200TR/1655-1939-1-ND/8625508
pins: 1, 2, 3

## DIODE SCHOTTKY BAT54-7-F
designator D?, comment BAT54-7-F
DIODE SCHOTTKY 30V 200MA SOT23-3; Manufacturer: Diodes Incorporated; Digikey Link: https://www.digikey.ca/en/products/detail/diodes-incorporated/BAT54-7-F/717699
pins: 1 A, 3 K

## DIODE STANDARD 600V 5A
designator D?, comment SD560BTR
Diode Standard 600V 5A Surface Mount SMB; Supplier 1: Digi-Key; Supplier Part Number 1: 1655-1530-1-ND
pins: A, C

## DIODE TVS CPDV5-3V3UP
designator D?  Supplier Part Number 1: 641-1422-1-ND
TVS Diode Bidirectional Vbr = 3.5V, Working Voltage = 3.3V; Height: 1.1mm; Supplier 1: Digi-Key
pins: 1 CATHODE1, 2 COMMON_ANODE, 3 CATHODE2, 4 CATHODE3, 5 CATHODE4

## DIODE ZENER 2.8V 500mW
designator D?, comment 2.8V
Zener Diode 2.8V 500mW ±5% Surface Mount SOD-123; Manufacturer: MMSZ5245B-TP
pins: A, C

## DIODE ZENER 3.3 500mW
designator D?, comment MMSZ4684T1G  Supplier Part Number 1: MMSZ4684T1GOSCT-ND
Zener 3V3 Voltage Regulator, 500 mW, 2-Pin SOD-123, Pb-Free, Tape and Reel; Manufacturer: On Semiconductor; Supplier 1: Digi-Key
pins: 1 K, 2 A

## DIODE ZENER 15V 3W
designator D?, comment 3SMBJ5929B-TP
Diode ZENER 15V 3W; Supplier 1: Digi-Key; Supplier Part Number 1: 3SMBJ5929BTPMSCT-ND
pins: A, C

## DS02-254-1L-04BE
designator S?
Dip Switch Piano Key 4-position; Value: *
pins: 1A COM1, 1B NO1, 2A COM2, 2B NO2, 3A COM3, 3B NO3, 4A COM4, 4B NO4

## EMI FILTER EMIF06-1005M12
designator U?, comment EMI EMIF06-1005M12
FILTER RC(PI) 100 OHM/45PF SMD; Digikey Link: https://www.digikey.ca/product-detail/en/stmicroelectronics/EMIF06-1005M12/497-7740-1-ND/1883755; Supplier 1: Digi-Key; Supplier Part Number 1: 497-7740-1-ND
pins: 1 IN1, 2 IN2, 3 IN3, 4 IN4, 5 IN5, 6 IN6, 7 OUT1, 8 OUT2, 9 OUT3, 10 OUT4, 11 OUT5, 12 OUT6, GND

## EMI FILTER IP4256CZ5-W
designator U?, comment EMI  (value not drawn)
FILTER RC(PI) 100 OHM/19PF SMD; Digikey Link: https://www.digikey.ca/product-detail/en/nexperia-usa-inc/IP4256CZ5-W115/1727-4718-1-ND/2531158; Supplier 1: Digi-Key; Supplier Part Number 1: 1727-4718-1-ND
pins: 1 P$1, 2 P$2, 3 P$3, 4 P$4, 5 P$5
text: GND

## EMI FILTER NFA18SL506X1A45L
designator U?, comment NFA18SL506X1A45L
4-Channel EMI Filter 55Mhz LC 2nd Order; Manufacturer: MURATA; Type: DEV; Supplier 1: Digi-Key
pins: 1 CH1_A, 2 CH2_A, 3 CH3_A, 4 CH4_A, 5 CH4_B, 6 CH3_B, 7 CH2_B, 8 CH1_B, GND

## EMI FILTER NUF8402MN
designator U?, comment NUF8402MN  Supplier Part Number 1: NUF8402MNT4GOSCT-ND
EMI Filter 8ch 105Mhz 100Ohm; Supplier 1: Digi-Key
pins: 1 CH1_A, 2 CH2_A, 3 CH3_A, 4 CH4_A, 5 CH5_A, 6 CH6_A, 7 CH7_A, 8 CH8_A, 9 CH8_B, 10 CH7_B, 11 CH6_B, 12 CH5_B, 13 CH4_B, 14 CH3_B, 15 CH2_B, 16 CH1_B, GND

## EMI FILTER TPD6F002DSVR
designator U?, comment TPD6F002DSVR
6-Channel EMI Filter for Display Interface; Manufacturer: Texas Instruments; Datasheet_URL: http://www.ti.com/lit/gpn/TPD6F002; Type: DEV
pins: 1 CH1_A, 2 CH2_A, 3 CH3_A, 4 CH4_A, 5 CH5_A, 6 CH6_A, 7 CH6_B, 8 CH5_B, 9 CH4_B, 10 CH3_B, 11 CH2_B, 12 CH1_B, 13 GND

## ES3J
designator *
Diode Switching 600V 3A 2-Pin DO-214AB T/R; Manufacturer: ON Semiconductor / Fairchild; Manufacturer Part Number: ES3J; Supplier 1: Digi-Key; Mount: Surface Mount; Number of Pins: 2; Length: 7.11mm; Height: 2.616mm; Width: 6.223mm; Supplier Part Number 1: ES3JCT-ND
pins: IN, OUT

## ESP32-PICO-D4
designator U?
Bluetooth, WiFi 802.11b/g/n, Bluetooth v4.2 +EDR, Class 1, 2 and 3 Transceiver Module 2.4GHz ~ 2.5GHz Surface Mount; Value: *
pins: 1 VDDA (power), 2 LNA_IN (io), 3 VDDA3P3 (power), 4 VDDA3P3 (power), 5 SENSOR_VP (in), 6 SENSOR_CAPP (in), 7 SENSOR_CAPN (in), 8 SENSOR_VN (in), 9 EN (in), 10 IO34 (in), 11 IO35 (in), 12 IO32 (io), 13 IO33 (io), 14 IO25 (io), 15 IO26 (io), 16 IO27 (io), 17 IO14 (io), 18 IO12 (io), 19 VDD3P3_RTC (power), 20 IO13 (io), 21 IO15 (io), 22 IO2 (io), 23 IO0 (io), 24 IO4 (io), 25 IO16 (io), 26 VDD_SDIO (power), 27 IO17 (io), 28 SD2 (io), 29 SD3 (io), 30 CMD (io), 31 CLK (io), 32 SD0 (io), 33 SD1 (io), 34 IO5 (io), 35 IO18 (io), 36 IO23 (io), 37 VDD3P3_CPU (power), 38 IO19 (io), 39 IO22 (io), 40 U0RXD (io), 41 U0TXD (io), 42 IO21 (io), 43 VDDA (power), 44 XTAL_N_NC, 45 XTAL_P_NC, 46 VDDA (power), 47 CAP2_NC, 48 CAP1_NC, 49 GND (power)

## FDS2582
designator U?
N-Channel 150V 4.1A (Ta) 2.5W (Ta) Surface Mount 8-SOIC; Rating: 150V; Digikey Link: https://www.digikey.com/product-detail/en/on-semiconductor/FDS2582/FDS2582CT-ND/3025307; Supplier 1: Digi-Key; Supplier Part Number 1: FDS2582CT-ND
pins: D, G, S

## FERRITE BEAD 200 MOHM 0603 1LN
designator FB?, comment 600R/1A
WURTH ELEKTRONIK - 742792651 - Ferrite Bead, 0603 [1608 Metric], 600 ohm, 1 A, WE-CBF Series, 0.2 ohm, &#177; 25%; Manufacturer: Wurth Electronics; Supplier 1: Digi-Key; Manufacturer Part Number: 742792651; Mount: Surface Mount; Tolerance: 25%; Length: 1.6mm; Width: 0.8mm; Height: 0.8mm; Depth: 0.8mm; Supplier Part Number 1: 732-1593-1-ND
pins: 1, 2

## FET P_CH SOT23_3
designator U?
P-Channel MOSFET General Purpose P-CH SOT23-3
pins: D, G, S

## FGY75N60SMD
designator Q
IGBT Field Stop 600V 150A 750W Through Hole PowerTO-247-3; Topology: Field Stop IGBT; Supplier 1: Digi-Key; Supplier Part Number 1: FGY75N60SMDFS-ND
pins: 1 G, 2 C, 3 E

## FUSE 1A 32V FAST
designator F?
FUSE 1A 32V DC 0603
pins: 1, 2

## FUSE 3A 63V SLOW
designator F?, comment Fuse 3A 1206
FUSE 3A 63V AC/DC SLOW 1206
pins: 1, 2

## FUSE 10A 63V SLOW
designator F?, comment Fuse 10A 1206
FUSE 10A 32V AC 63V DC 1206; Rating: 10A
pins: 1, 2

## FUSE 20A 63V SLOW
designator F?, comment Fuse 20A 1206
FUSE 20A 32V AC 63V DC 1206
pins: 1, 2

## FUSE BLADE
designator F?, comment 3557-2  Supplier Part Number 1: 36-3557-2-ND
Fuse Block 30A 500V 1 Circuit Blade Through Hole; Value: *; Supplier 1: Digi-Key
pins: 1 1A, 2 1B, 3 2A, 4 2B

## GA3459
designator T?
Audio Transformers / Signal Transformers GA3459 for LT3751 500V 20A; Supplier 1: Mouser; Supplier Part Number 1: 994-GA3459-BL
pins: 1, 2, 3, 4, 6, 7, 9, 10, 11, 12

## IC INA226AIDGSR
designator U?, comment INA226AIDGSR
36-V, Bi-Directional, Ultra-High Accuracy, Low-/High-Side, I2C Out Current/Power Monitor w/ Alert 10-VSSOP -40 to 125; Digikey Link: https://www.digikey.ca/product-detail/en/texas-instruments/INA226AIDGSR/296-29034-1-ND/2687118; Supplier 1: Digi-Key; Supplier Part Number 1: 296-29034-6-ND
pins: 1 A1 (in), 2 A0 (in), 3 ALERT (out), 4 SDA (io), 5 SCL (in), 6 VS (power), 7 GND (power), 8 VBUS (power), 9 IN- (in), 10 IN+ (in)

## IMU LSM6DSLTR
designator U?, comment LSM6DSLTR
IMU ACCEL/GYRO I2C/SPI 14LGA; Supplier 1: Digi-Key; Supplier Part Number 1: 497-16705-1-ND
pins: 1 SDO/SA0 (io), 2 SDX (io), 3 SCX (io), 4 INT1 (out), 5 VDDIO (power), 6 GND (power), 7 GND (power), 8 VDD (power), 9 INT2 (out), 12 CS (in), 13 SCL (in), 14 SDA (io)

## IND 3.3UH 5.6A 21 MOHM SMD
designator L?, comment SRN8040-3R3Y
3.3µH Semi-Shielded Wirewound Inductor 5.6A 21mOhm Max Nonstandard; Digikey Link: https://www.digikey.ca/en/products/detail/bourns-inc/SRN8040-3R3Y/2756131
pins: 1, 2

## IND 3.3UH 6.6A 15 MOHM SMD
designator L?, comment SRN8040TA-3R3Y  Supplier Part Number 1: SRN8040TA-3R3YCT-ND
3.3 µH Inductor 6.6 A; Value: *; Supplier 1: Digi-Key
pins: 1, 2

## IND 3.3UH 12A 12 MOHM SMD
designator L?, comment Supplier Part Number 1: 541-1020-1-ND  (hidden comment: IHLP5050CEER3R3M01)
3.3uH 12A Shielded Molded Inductor 12mOhm Max; Type: DEV; Supplier 1: Digi-Key
pins: 1, 2

## IND 8.2UH 4.6A 15MOHM
designator L?, comment SRU1048-8R2Y
8.2µH Shielded Wirewound Inductor 4.6A 15mOhm Nonstandard; Value: 8.2uH; Digikey Link: https://www.digikey.ca/en/products/detail/bourns-inc/SRU1048-8R2Y/2352912
pins: 1, 2

## IND 15UH 3.2A 50 MOHM
designator L?, comment SRN8040TA-150M  Supplier Part Number 1: SRN8040TA-150MCT-ND
15µH Semi-Shielded Wirewound Inductor 2.4A 70mOhm Max Nonstandard; Digikey Link: https://www.digikey.ca/en/products/detail/bourns-inc/SRN8040TA-150M/6155130; Supplier 1: Digi-Key
pins: 1, 2

## IND 15UH 4.5A 34 MOHM
designator L?, comment SDR1307-150ML
15µH Unshielded Wirewound Inductor 4.5A 34mOhm Max Nonstandard; Digikey Link: https://www.digikey.ca/en/products/detail/bourns-inc/SDR1307-150ML/2561929
pins: 1, 2

## IND 33UH 10.7A 37 MOHM SMD
designator ?
33µH Shielded Molded Inductor 10.7A 37mOhm; Value: *; Supplier 1: Digi-Key; Supplier Part Number 1: 541-1289-1-ND
pins: 1, 2

## IND 56UH 4A 65 mOHM SMD
designator L?, comment 56 UH
FIXED IND 56UH 4A 65 MOHM SMD Shielded - Inductor 65mOhm Max Nonstandard -; Value: 56 µH; Supplier 1: Digi-Key; Supplier Part Number 1: 283-HCM1A1307V2-560-RCT-ND
pins: 1, 2

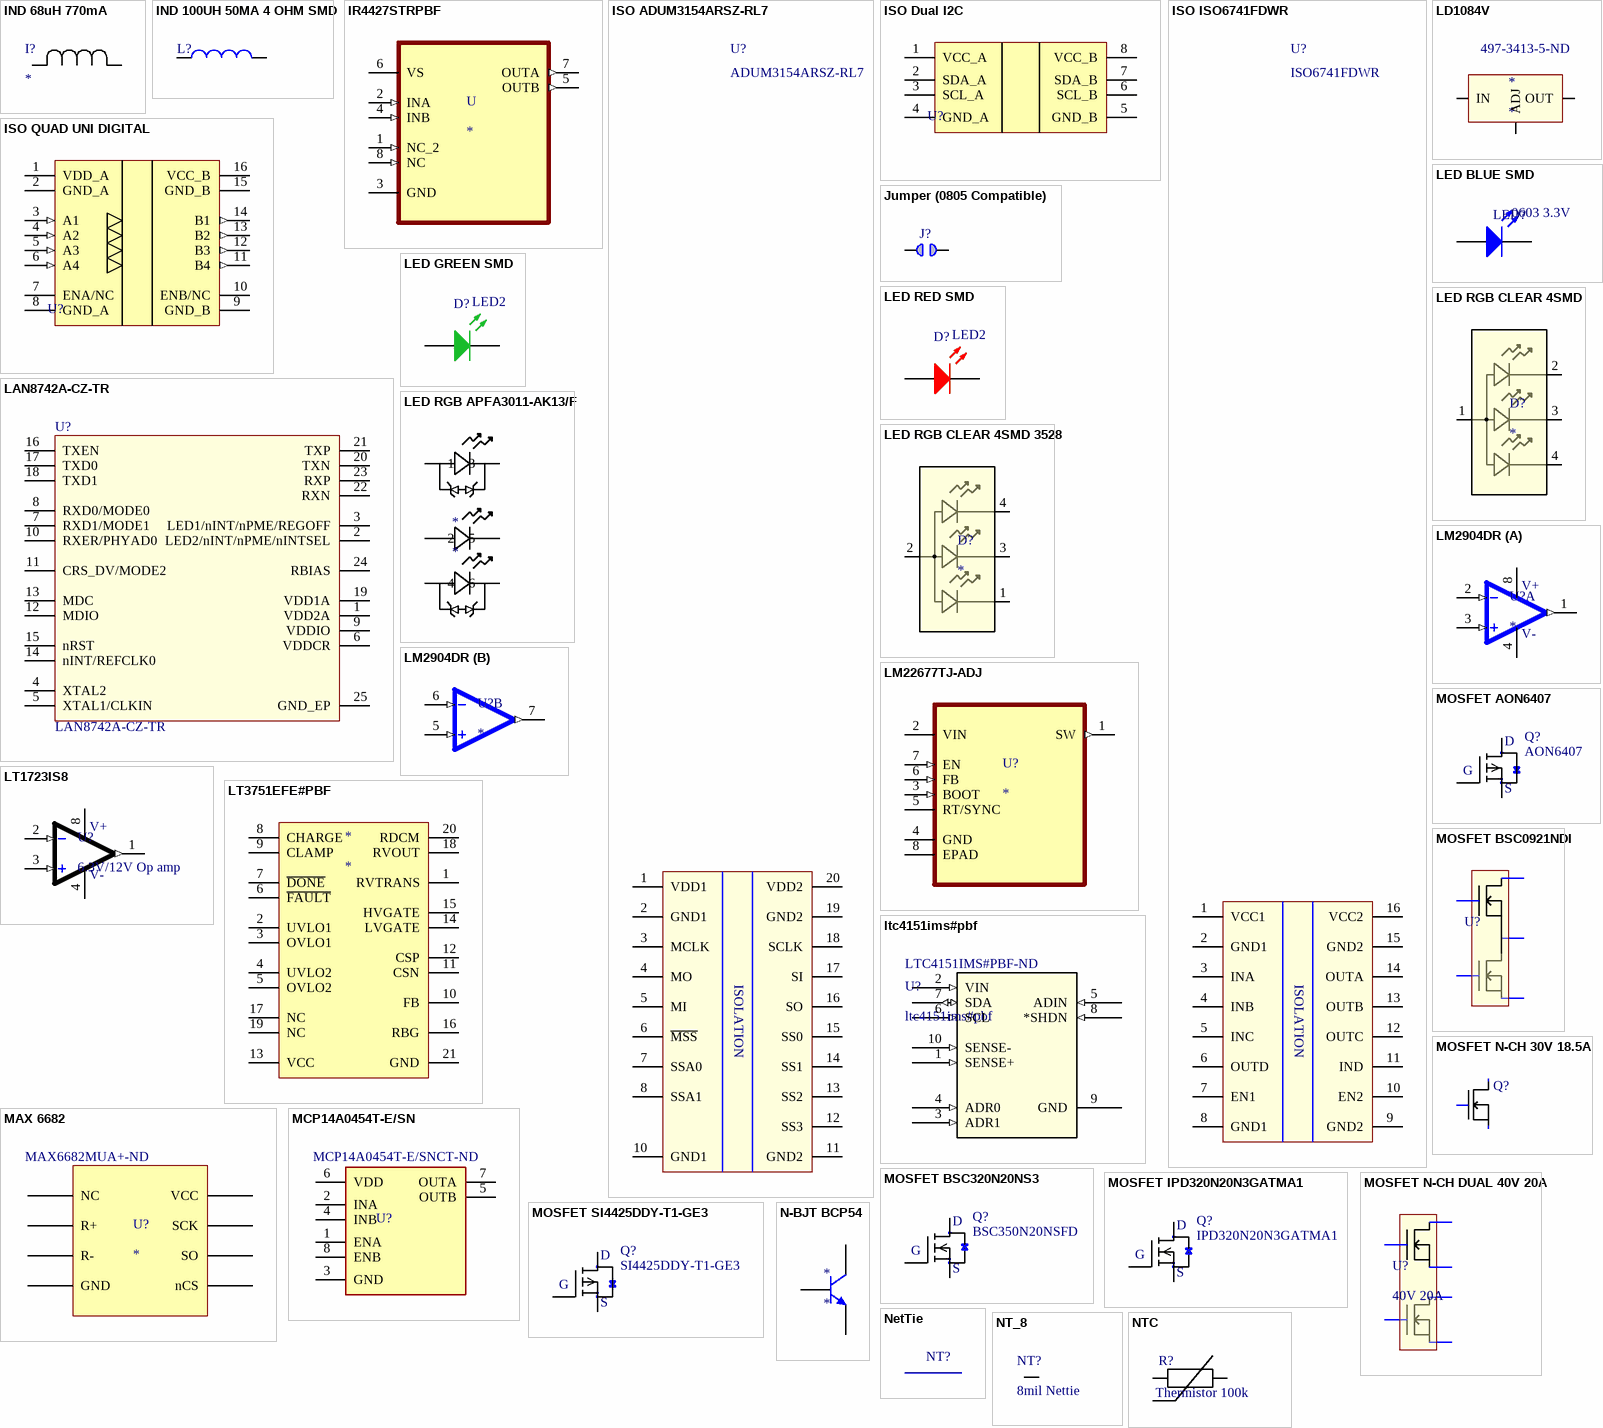
[diagram p5: symbols IND 68uH 770mA to NTC]

## IND 68uH 770mA
designator I?
pins: 1, 2

## IND 100UH 50MA 4 OHM SMD
designator L?
100µH Unshielded Wirewound Inductor 50mA 4Ohm 0805 (2012 Metric); Value: 100uH; Revision: July-2002: Re-released for DXP Platform.; Digikey Link: https://www.digikey.ca/product-detail/en/taiyo-yuden/LBR2012T101K/587-2048-1-ND/1788995; Supplier 1: Digi-Key; Supplier Part Number 1: 587-4040-1-ND
pins: 1, 2

## IR4427STRPBF
designator U
Low-Side Gate Driver IC Non-Inverting 8-SOIC; Value: *; Supplier 1: Digi-Key; Supplier Part Number 1: IR4427SPBFCT-ND
pins: 1 NC_2 (in), 2 INA (in), 3 GND, 4 INB (in), 5 OUTB (out), 6 VS (power), 7 OUTA (out), 8 NC (in)

## ISO ADUM3154ARSZ-RL7
designator U?, comment ADUM3154ARSZ-RL7
DGTL ISO 3.75KV 4CH SPI 20SSOP; Manufacturer: Analog Devices; Turn-On Delay Time: 25ns; Supplier 1: Digi-Key; Manufacturer Part Number: ADUM3154ARSZ-RL7; Mount: Surface Mount; Number of Pins: 20; Supplier Part Number 1: ADUM3154ARSZ-RL7CT-ND
pins: 1 VDD1, 2 GND1, 3 MCLK, 4 MO, 5 MI, 6 ~{MSS}, 7 SSA0, 8 SSA1, 10 GND1, 11 GND2, 12 SS3, 13 SS2, 14 SS1, 15 SS0, 16 SO, 17 SI, 18 SCLK, 19 GND2, 20 VDD2
text: ISOLATION

## ISO Dual I2C
designator U?
Digital Isolation Dual Ch Bidirectional I2C; Revision: 1
pins: 1 VCC_A, 2 SDA_A, 3 SCL_A, 4 GND_A, 5 GND_B, 6 SCL_B, 7 SDA_B, 8 VCC_B

## ISO ISO6741FDWR
designator U?, comment ISO6741FDWR
ISO GENERAL-PURPOSE, QUAD-CHANNEL, 3/1; Manufacturer: Texas Instruments; Supplier 1: Digi-Key; Manufacturer Part Number: ISO6741FDWR; Supplier Part Number 1: 296-ISO6741FDWRCT-ND
pins: 1 VCC1, 2 GND1, 3 INA, 4 INB, 5 INC, 6 OUTD, 7 EN1, 8 GND1, 9 GND2, 10 EN2, 11 IND, 12 OUTC, 13 OUTB, 14 OUTA, 15 GND2, 16 VCC2
text: ISOLATION

## ISO QUAD UNI DIGITAL
designator U?
Digital Isolation Quad Channel.; Revision: 1
pins: 1 VDD_A, 2 GND_A, 3 A1 (in), 4 A2 (in), 5 A3 (in), 6 A4 (in), 7 ENA/NC, 8 GND_A, 9 GND_B, 10 ENB/NC, 11 B4 (out), 12 B3 (out), 13 B2 (out), 14 B1 (out), 15 GND_B, 16 VCC_B

## Jumper (0805 Compatible)
designator J?  (value not drawn)
pins: 1, 2

## LAN8742A-CZ-TR
designator U?
LAN8742A-CZ-TR - Small Footprint RMII 10/100 Ethernet, Transceiver with HP Auto-MDIX and flexPWR Technology SQFN-24; Digikey Link: https://www.digikey.ca/product-detail/en/microchip-technology/LAN8742A-CZ-TR/LAN8742A-CZ-CT-ND/8256089; Supplier 1: Digi-Key; Supplier Part Number 1: LAN8742A-CZ-CT-ND
pins: 1 VDD2A, 2 LED2/nINT/nPME/nINTSEL, 3 LED1/nINT/nPME/REGOFF, 4 XTAL2, 5 XTAL1/CLKIN, 6 VDDCR, 7 RXD1/MODE1, 8 RXD0/MODE0, 9 VDDIO, 10 RXER/PHYAD0, 11 CRS_DV/MODE2, 12 MDIO, 13 MDC, 14 nINT/REFCLK0, 15 nRST, 16 TXEN, 17 TXD0, 18 TXD1, 19 VDD1A, 20 TXN, 21 TXP, 22 RXN, 23 RXP, 24 RBIAS, 25 GND_EP

## LD1084V
designator *  Supplier Part Number 1: 497-3413-5-ND
STMICROELECTRONICS         LD1084V            LDO Voltage Regulator, Adjustable, 30V in, 1.3V drop, 5A out, TO-220-3; Supplier 1: Digi-Key; Manufacturer: STMicroelectronics; Manufacturer Part Number: LD1084V; Mount: Through Hole; Number of Pins: 3; Length: 10.4mm; Height: 9.15mm; Width: 4.6mm
pins: 1 IN, 2 ADJ, 3 OUT

## LED BLUE SMD
designator LED?, comment 0603 3.3V
LED BLUE CLEAR 0603 SMD; Manufacturer: Vishay Lite-On; Manufacturer Part Number: LTST-C191TBKT; Supplier 1: Digi-Key; Mount: Surface Mount; Number of Pins: 2; Length: 0.8mm; Width: 0.8mm; Height: 0.55mm; Depth: 1.6mm; Supplier Part Number 1: 160-1647-1-ND
pins: 1 A, 2 K

## LED GREEN SMD
designator D?, comment LED2
Typical RED, GREEN, YELLOW, AMBER GaAs LED
pins: 1 A, 2 K

## LED RED SMD
designator D?, comment LED2
Typical RED, GREEN, YELLOW, AMBER GaAs LED
pins: 1 A, 2 K

## LED RGB APFA3011-AK13/F
designator *
pins: 1, 2, 3, 4, 5, 6

## LED RGB CLEAR 4SMD
designator D?
LED RGB No Lead
pins: 1, 2, 3, 4

## LED RGB CLEAR 4SMD 3528
designator D?
LED RGB No Lead / AAA3528
pins: 1, 2, 3, 4

## LM2904DR
designator U?
General Purpose Amplifier 2 Circuit 8-SOIC; Value: *; Supplier 1: Digi-Key; Supplier Part Number 1: 296-14596-1-ND
part A pins: 1 OUT1 (out), 2 IN1- (in), 3 IN1+ (in), 4 V- (power), 8 V+ (power)
part B pins: 5 IN2+ (in), 6 IN2- (in), 7 OUT2 (out)

## LM22677TJ-ADJ
designator U?
3A SIMPLE SWITCHERÂ®, Step-Down Voltage Regulator; Value: *
pins: 1 SW (out), 2 VIN (power), 3 BOOT (in), 4 GND, 5 RT/SYNC, 6 FB (in), 7 EN (in), 8 EPAD

## LT1723IS8
designator U?, comment 6.3V/12V Op amp
IC OPAMP VFB 200MHZ 8SO; Manufacturer: Analog Devices / Linear Technology; Manufacturer Part Number: LT1723IS8#PBF; Supplier 1: Digi-Key; Number of Pins: 8; Length: 5mm; Height: 1.5mm; Width: 3.99mm; Supplier Part Number 1: LT1723IS8#PBF-ND
pins: 1 OUT1 (out), 2 IN1- (in), 3 IN1+ (in), 4 V- (power), 8 V+ (power)